# Altium footprint library ARDUINO_ARDUINO_UNO_REV3.PcbLib: 1 footprints
Each footprint in its own frame and in the unit in brackets; x right, y up, seen from the top. Pads: shape width x height; smd on the part's side, far side on the other; paste and mask are expansions set on the pad; w line width, h text height; cw(c..) or ccw(c..) is an arc to the next point about the centre after c.
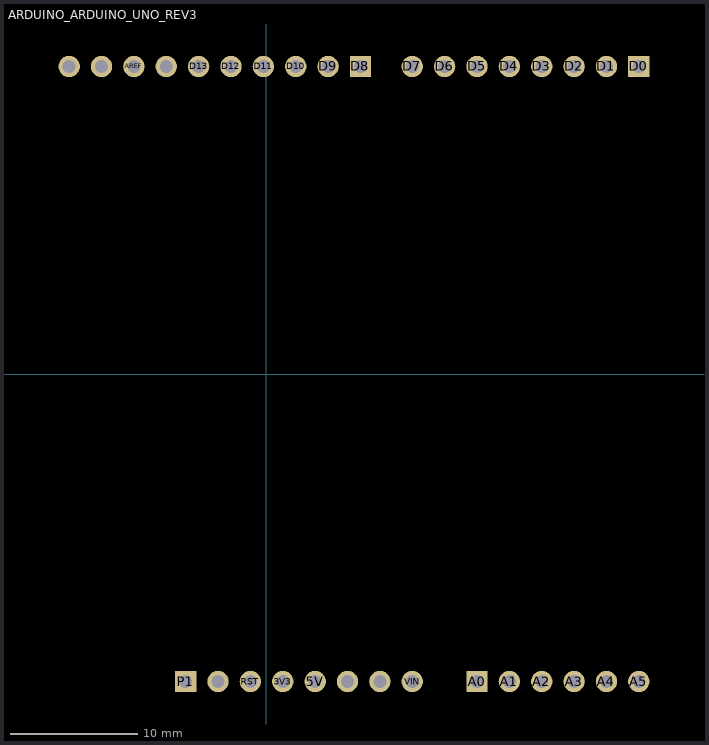
[diagram p0: the footprint, top view; thin cyan lines are the x and y axes]

## ARDUINO_ARDUINO_UNO_REV3 [mil]
pads (32):
  round 66 hole 40: 3V3(50.89,-949.18) 5V(150.89,-949.18) A1(750.89,-949.18) A2(850.89,-949.18) A3(950.89,-949.18) A4(1050.89,-949.18) A4_SDA(-509.11,950.82) A5(1150.89,-949.18) A5_SCL(-609.11,950.82) AREF(-409.11,950.82) D1(1050.89,950.82) D2(950.89,950.82) D3(850.89,950.82) D4(750.89,950.82) D5(650.89,950.82) D6(550.89,950.82) D7(450.89,950.82) D9(190.89,950.82) D10(90.89,950.82) D11(-9.11,950.82) D12(-109.11,950.82) D13(-209.11,950.82) GND_1(350.89,-949.18) GND_2(250.89,-949.18) GND_3(-309.11,950.82) IOREF(-149.11,-949.18) RST(-49.11,-949.18) VIN(450.89,-949.18)
  rect 66x66 / inner round 66 / far side rect 66x66 hole 40: A0(650.89,-949.18) D0(1150.89,950.82) D8(290.89,950.82) P1(-249.11,-949.18)